# Altium footprint library idl-fixed_new.PCBLIB: 92 footprints (part 1 of 6)
Each footprint in its own frame and in the unit in brackets; x right, y up, seen from the top. Pads: shape width x height; smd on the part's side, far side on the other; paste and mask are expansions set on the pad; w line width, h text height; cw(c..) or ccw(c..) is an arc to the next point about the centre after c.
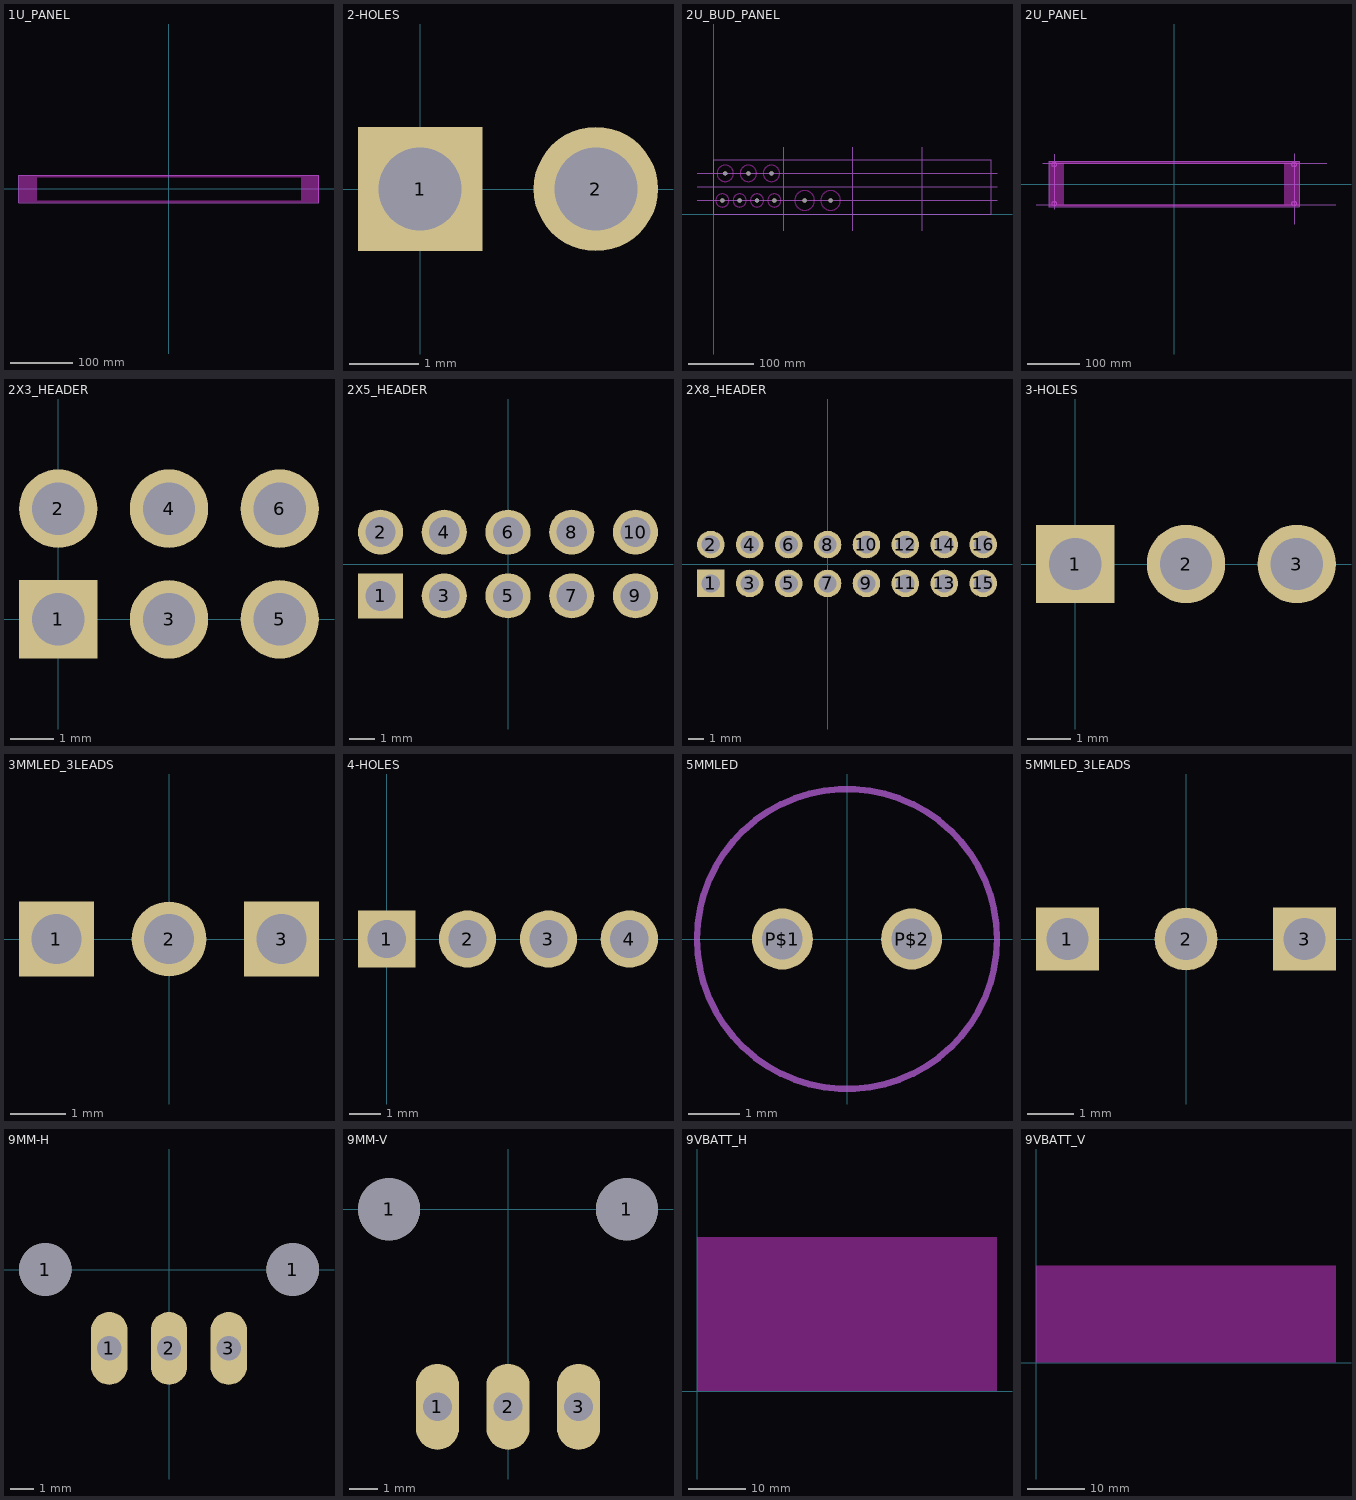
[diagram p0: the footprints below, top view; thin cyan lines are the x and y axes]

## 1U_PANEL [mil]
Keep-Out Layer:
  rectangle: -9470,-860 -8320,860
  rectangle: 8320,-860 9470,860
  rectangle: -8320,-860 8320,-720
  rectangle: -8320,720 9470,860
Mechanical 1:
  lines w5: -9470,-860 9470,-860 9470,860 -9470,860 -9470,-860

## 2-HOLES [mil]
pads (2):
  rect 70.86x70.86 hole 47.24: 1(0,0)
  round 70.86 hole 47.24: 2(100,0)

## 2U_BUD_PANEL [mil]
pads (9):
  round 248.03 hole 248.03: 1(520,812.5) 1(693.33,2437.5) 1(1560,812.5) 1(2080,2437.5) 1(2600,812.5) 1(3466.67,2437.5) 1(3640,812.5) 1(5460,812.5) 1(7020,812.5)
Keep-Out Layer:
  circle w0: c2080,2437.5 r492.13
  circle w0: c693.33,2437.5 r492.13
  circle w0: c3466.67,2437.5 r492.13
  circle w0: c520,812.5 r393.7
  circle w0: c1560,812.5 r393.7
  circle w0: c2600,812.5 r393.7
  circle w0: c3640,812.5 r393.7
  circle w0: c5460,812.5 r590.55
  circle w0: c7020,812.5 r590.55
Mechanical 1:
  lines w0: -1000,812.5 17000,812.5 ; -1000,1625 17000,1625 ; -1000,2437.5 17000,2437.5 ; 4160,-1000 4160,4000 ; 8320,-1000 8320,4000 ; 12480,-1000 12480,4000 ; 0,0 16640,0 16640,3250 0,3250 0,0

## 2U_PANEL [mil]
Keep-Out Layer:
  rectangle: -9470,-1708 -8320,1708
  rectangle: 8320,-1708 9470,1708
  rectangle: -8320,-1708 8320,-1564
  rectangle: -8320,1564 8320,1708
Mechanical 1:
  lines w0: -9470,-1708 9470,-1708 9470,1708 -9470,1708 -9470,-1708 ; -9270,-1475 ccw(c-9145,-1475) -9145,-1600 -9005,-1600 ccw(c-9005,-1475) -8880,-1475 ccw(c-9005,-1475) -9005,-1350 -9145,-1350 ccw(c-9145,-1475) -9270,-1475 ; -9270,1475 ccw(c-9145,1475) -9145,1350 -9005,1350 ccw(c-9005,1475) -8880,1475 ccw(c-9005,1475) -9005,1600 -9145,1600 ccw(c-9145,1475) -9270,1475 ; 8880,-1475 ccw(c9005,-1475) 9005,-1600 9145,-1600 ccw(c9145,-1475) 9270,-1475 ccw(c9145,-1475) 9145,-1350 9005,-1350 ccw(c9005,-1475) 8880,-1475 ; 8880,1475 ccw(c9005,1475) 9005,1350 9145,1350 ccw(c9145,1475) 9270,1475 ccw(c9145,1475) 9145,1600 9005,1600 ccw(c9005,1475) 8880,1475
Mechanical 14:
  lines w0: -10450,-1564 12250,-1564 ; -9950,1564 11550,1564 ; -9078,-1900 -9078,2250 ; 9078,2300 9087,-3050

## 2X3_HEADER [mil]
pads (6):
  rect 70.86x70.86 hole 47.24: 1(0,0)
  round 70.86 hole 47.24: 2(0,100) 3(100,0) 4(100,100) 5(200,0) 6(200,100)

## 2X5_HEADER [mil]
pads (10):
  rect 70.86x70.86 hole 47.24: 1(-200,-50)
  round 70.86 hole 47.24: 2(-200,50) 3(-100,-50) 4(-100,50) 5(0,-50) 6(0,50) 7(100,-50) 8(100,50) 9(200,-50) 10(200,50)

## 2X8_HEADER [mil]
pads (16):
  rect 70.86x70.86 hole 47.24: 1(-300,-50)
  round 70.86 hole 47.24: 2(-300,50) 3(-200,-50) 4(-200,50) 5(-100,-50) 6(-100,50) 7(0,-50) 8(0,50) 9(100,-50) 10(100,50) 11(200,-50) 12(200,50) 13(300,-50) 14(300,50) 15(400,-50) 16(400,50)

## 3-HOLES [mil]
pads (3):
  rect 70.86x70.86 hole 47.24: 1(0,0)
  round 70.86 hole 47.24: 2(100,0) 3(200,0)

## 3MMLED_3LEADS [mil]
pads (3):
  rect 53.15x53.15 hole 35.43: 1(-80,0) 3(80,0)
  round 53.15 hole 35.43: 2(0,0)

## 4-HOLES [mil]
pads (4):
  rect 70.86x70.86 hole 47.24: 1(0,0)
  round 70.86 hole 47.24: 2(100,0) 3(200,0) 4(300,0)

## 5MMLED [mil]
pads (2):
  round 47.25 hole 31.5: P$1(-50,0) P$2(50,0)
Mechanical 2:
  circle w5: c0,0 r116.02

## 5MMLED_3LEADS [mil]
pads (3):
  rect 53.15x53.15 hole 35.43: 1(-100,0) 3(100,0)
  round 53.15 hole 35.43: 2(0,0)

## 9MM-H [mil]
pads (5):
  round 86.61 hole 86.61: 1(-203.92,0) 1(203.92,0)
  oval 60x120 hole 40: 1(-98.43,-129.92) 2(0,-129.92) 3(98.43,-129.92)

## 9MM-V [mil]
pads (5):
  round 86.61 hole 86.61: 1(-166,0) 1(166,0)
  oval 60x120 hole 40: 1(-98.43,-275.59) 2(0,-275.59) 3(98.43,-275.59)

## 9VBATT_H [mil]
Keep-Out Layer:
  rectangle: 0,0 2066.93,1062.99

## 9VBATT_V [mil]
Keep-Out Layer:
  rectangle: 0,0 2066.93,669.29